# EAGLE library part HEADER_22P (library Public)
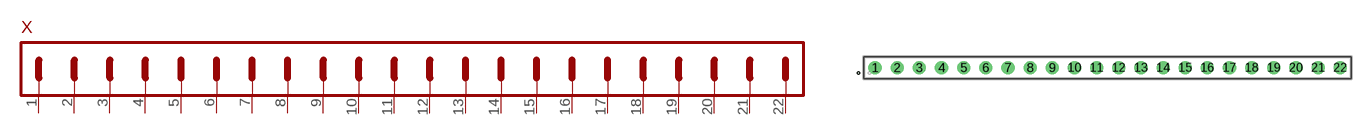
[diagram p59: symbol with the pads of HEADER_22P_1ROW_RM2.54MM_THT; footprint HEADER_22P_1ROW_RM2.54MM_THT]

Designator prefix X

## HEADER_22P(RM2.54MM_1ROW_THT)  [HEADER_22P_1ROW_RM2.54MM_THT]
1  PIN1
2  PIN2
3  PIN3
4  PIN4
5  PIN5
6  PIN6
7  PIN7
8  PIN8
9  PIN9
10  PIN10
11  PIN11
12  PIN12
13  PIN13
14  PIN14
15  PIN15
16  PIN16
17  PIN17
18  PIN18
19  PIN19
20  PIN20
21  PIN21
22  PIN22

## Footprint HEADER_22P_1ROW_RM2.54MM_THT (pad centres in mm)
drill 1: 1 -26.67,0; 2 -24.13,0; 3 -21.59,0; 4 -19.05,0; 5 -16.51,0; 6 -13.97,0; 7 -11.43,0; 8 -8.89,0; 9 -6.35,0; 10 -3.81,0; 11 -1.27,0; 12 1.27,0; 13 3.81,0; 14 6.35,0; 15 8.89,0; 16 11.43,0; 17 13.97,0; 18 16.51,0; 19 19.05,0; 20 21.59,0; 21 24.13,0; 22 26.67,0